# Altium schematic symbol library DACs.SchLib: 1 symbol
Pins are listed as number, name and electrical type; pins without a type are passive.

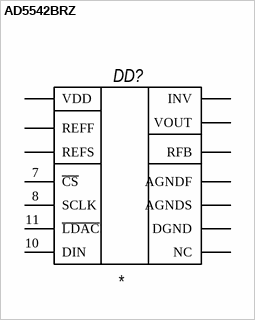
[diagram p0: symbol AD5542BRZ]

## AD5542BRZ
designator DD?
pins: 1 RFB, 2 VOUT, 3 AGNDF, 4 AGNDS, 5 REFF, 6 REFS, 7 ~{CS}, 8 SCLK, 9 NC, 10 DIN, 11 ~{LDAC}, 12 DGND, 13 INV, 14 VDD